# EAGLE library part UBLOX_NORA_W306 (library nora-w306)
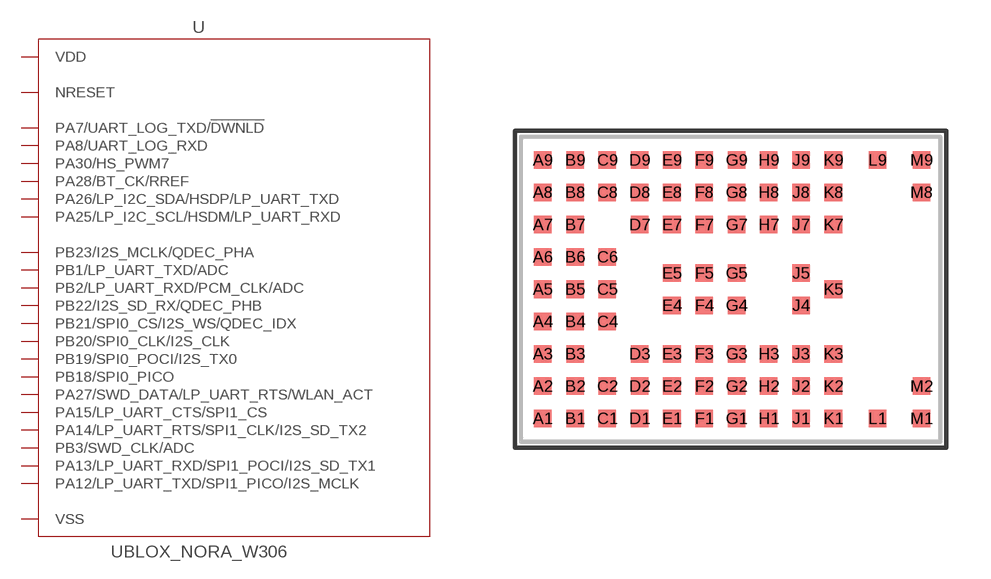
[diagram p0: symbol with the pads of UBLOX-NORA-W3; footprint UBLOX-NORA-W3]

Designator prefix -

## UBLOX_NORA_W306 (PROD_ID: IC-17585)  [UBLOX-NORA-W3]
A1  VSS
A5  PA7/UART_LOG_TXD/!DWNLD!
A6  PA8/UART_LOG_RXD
A7  VDD
A8  VDD
A9  VSS
B1  PA30/HS_PWM7
B2  VSS
B3  PA28/BT_CK/RREF
B7  VDD
B8  VSS
C1  PA26/LP_I2C_SDA/HSDP/LP_UART_TXD
C2  PA25/LP_I2C_SCL/HSDM/LP_UART_RXD
C8  PB23/I2S_MCLK/QDEC_PHA
D8  PB1/LP_UART_TXD/ADC
E4  VSS
E5  VSS
E8  PB2/LP_UART_RXD/PCM_CLK/ADC
E9  PB22/I2S_SD_RX/QDEC_PHB
F4  VSS
F5  VSS
F8  PB21/SPI0_CS/I2S_WS/QDEC_IDX
F9  PB20/SPI0_CLK/I2S_CLK
G8  PB19/SPI0_POCI/I2S_TX0
G9  PB18/SPI0_PICO
H2  PA27/SWD_DATA/LP_UART_RTS/WLAN_ACT
H8  PA15/LP_UART_CTS/SPI1_CS
H9  PA14/LP_UART_RTS/SPI1_CLK/I2S_SD_TX2
J2  PB3/SWD_CLK/ADC
J3  NRESET
J8  PA13/LP_UART_RXD/SPI1_POCI/I2S_SD_TX1
J9  PA12/LP_UART_TXD/SPI1_PICO/I2S_MCLK
K2  VSS
K3  VSS
K5  VSS
K7  VSS
K8  VSS
L1  VSS
L9  VSS
M1  VSS
M2  VSS
M8  VSS
M9  VSS

## Footprint UBLOX-NORA-W3 (pad centres in mm)
smd 0.6 x 0.6: A1 -5.5,-4.4; A2 -5.5,-3.3; A3 -5.5,-2.2; A4 -5.5,-1.1; A5 -5.5,0; A6 -5.5,1.1; A7 -5.5,2.2; A8 -5.5,3.3; A9 -5.5,4.4; B1 -4.4,-4.4; B2 -4.4,-3.3; B3 -4.4,-2.2; B4 -4.4,-1.1; B5 -4.4,0; B6 -4.4,1.1; B7 -4.4,2.2; B8 -4.4,3.3; B9 -4.4,4.4; C1 -3.3,-4.4; C2 -3.3,-3.3; C4 -3.3,-1.1; C5 -3.3,0; C6 -3.3,1.1; C8 -3.3,3.3; C9 -3.3,4.4; D1 -2.2,-4.4; D2 -2.2,-3.3; D3 -2.2,-2.2; D7 -2.2,2.2; D8 -2.2,3.3; D9 -2.2,4.4; E1 -1.1,-4.4; E2 -1.1,-3.3; E3 -1.1,-2.2; E4 -1.1,-0.55; E5 -1.1,0.55; E7 -1.1,2.2; E8 -1.1,3.3; E9 -1.1,4.4; F1 0,-4.4; F2 0,-3.3; F3 0,-2.2; F4 0,-0.55; F5 0,0.55; F7 0,2.2; F8 0,3.3; F9 0,4.4; G1 1.1,-4.4; G2 1.1,-3.3; G3 1.1,-2.2; G4 1.1,-0.55; G5 1.1,0.55; G7 1.1,2.2; G8 1.1,3.3; G9 1.1,4.4; H1 2.2,-4.4; H2 2.2,-3.3; H3 2.2,-2.2; H7 2.2,2.2; H8 2.2,3.3; H9 2.2,4.4; J1 3.3,-4.4; J2 3.3,-3.3; J3 3.3,-2.2; J4 3.3,-0.55; J5 3.3,0.55; J7 3.3,2.2; J8 3.3,3.3; J9 3.3,4.4; K1 4.4,-4.4; K2 4.4,-3.3; K3 4.4,-2.2; K5 4.4,0; K7 4.4,2.2; K8 4.4,3.3; K9 4.4,4.4; L1 5.9,-4.4; L9 5.9,4.4; M1 7.4,-4.4; M2 7.4,-3.3; M8 7.4,3.3; M9 7.4,4.4